# Altium footprint library Analog_project.PcbLib: 17 footprints (part 2 of 2)
Each footprint in its own frame and in the unit in brackets; x right, y up, seen from the top. Pads: shape width x height; smd on the part's side, far side on the other; paste and mask are expansions set on the pad; w line width, h text height; cw(c..) or ccw(c..) is an arc to the next point about the centre after c.
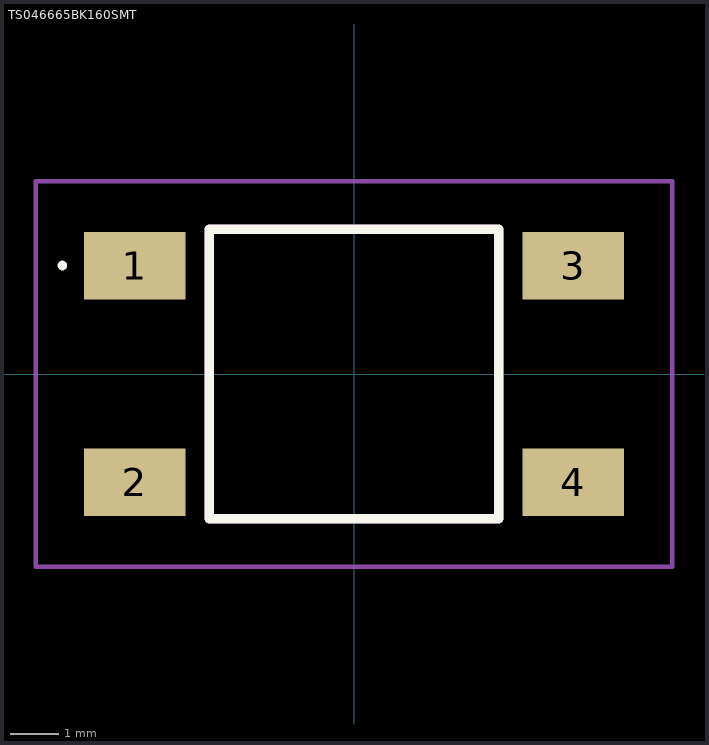
[diagram p1: the footprint, top view; thin cyan lines are the x and y axes]

## TS046665BK160SMT [mm]
pads (4):
  rect 2.1x1.4 smd: 1(-4.55,2.25) 2(-4.55,-2.25) 3(4.55,2.25) 4(4.55,-2.25)
Top Overlay:
  lines w0.1: -6.1,2.25 ccw(c-6.05,2.25) -6,2.25 ccw(c-6.05,2.25) -6.1,2.25
  lines w0.2: -3,-3 -3,3 3,3 3,-3 -3,-3
Top Assembly:
  lines w0.2: -3,-3 -3,3 3,3 3,-3 -3,-3
  text ".Designator" at -4.998,-0.333 h1
Top Courtyard:
  lines w0.1: -3,-3 -3,3 3,3 3,-3 -3,-3
Bottom Assembly:
  lines w0.1: -6.6,-4 -6.6,4 6.6,4 6.6,-4 -6.6,-4
3D body "CUI_DEVICES_TS04-66-65-BK-160-SMT.step": height 6.61, standoff 0.01, extent -5.127,-3 4.873,3